# Altium schematic symbol library AT-1224-TWT-5V-2-R.SchLib: 1 symbol
Pins are listed as number, name and electrical type; pins without a type are passive.

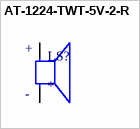
[diagram p0: symbol AT-1224-TWT-5V-2-R]

## AT-1224-TWT-5V-2-R
designator LS?
AUDIO TRANSDUCER 5 VP-P 87 DB 2400 HZ; MF: PUI Audio,; MP: AT-1224-TWT-5V-2-R; Check_prices: https://www.snapeda.com/parts/AT-1224-TWT-5V-2-R/PUI%20Audio,%20Inc./view-part/453710/?ref=eda; Purchase-URL: https://pricing.snapeda.com/search/part/AT-1224-TWT-5V-2-R/?ref=eda; SnapEDA_Link: https://www.snapeda.com/parts/AT-1224-TWT-5V-2-R/PUI%20Audio,%20Inc./view-part/453710/?ref=snap; Value: *; Package: PUI Audio,; Price: None; Availability: In Stock
footprint XDCR_AT-1224-TWT-5V-2-R
pins: N, P
text: +; -